# EAGLE library part COMMS (library comms)
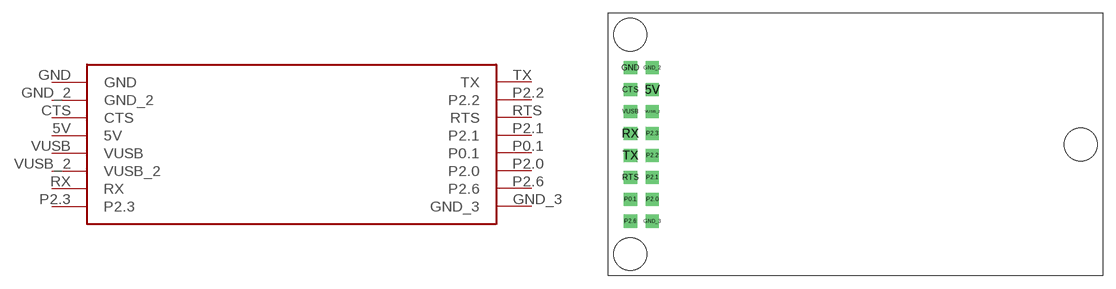
[diagram p0: symbol with the pads of COMMS; footprint COMMS]

Designator prefix -

## COMMS  [COMMS]
5V  5V
CTS  CTS
GND  GND
GND_2  GND_2
GND_3  GND_3
P0.1  P0.1
P2.0  P2.0
P2.1  P2.1
P2.2  P2.2
P2.3  P2.3
P2.6  P2.6
RTS  RTS
RX  RX
TX  TX
VUSB  VUSB
VUSB_2  VUSB_2

## Footprint COMMS (pad centres in mm)
drill 1.016 square: 5V -5.08,0; CTS -7.62,0; GND -7.62,2.54; GND_2 -5.08,2.54; GND_3 -5.08,-15.24; P0.1 -7.62,-12.7; P2.0 -5.08,-12.7; P2.1 -5.08,-10.16; P2.2 -5.08,-7.62; P2.3 -5.08,-5.08; P2.6 -7.62,-15.24; RTS -7.62,-10.16; RX -7.62,-5.08; TX -7.62,-7.62; VUSB -7.62,-2.54; VUSB_2 -5.08,-2.54
hole 3.81 at -7.62,6.35
hole 3.81 at -7.62,-19.05
hole 3.81 at 44.45,-6.35